# Altium footprint library CL10B105KO8NNNC.PcbLib: 3 footprints
Each footprint in its own frame and in the unit in brackets; x right, y up, seen from the top. Pads: shape width x height; smd on the part's side, far side on the other; paste and mask are expansions set on the pad; w line width, h text height; cw(c..) or ccw(c..) is an arc to the next point about the centre after c.
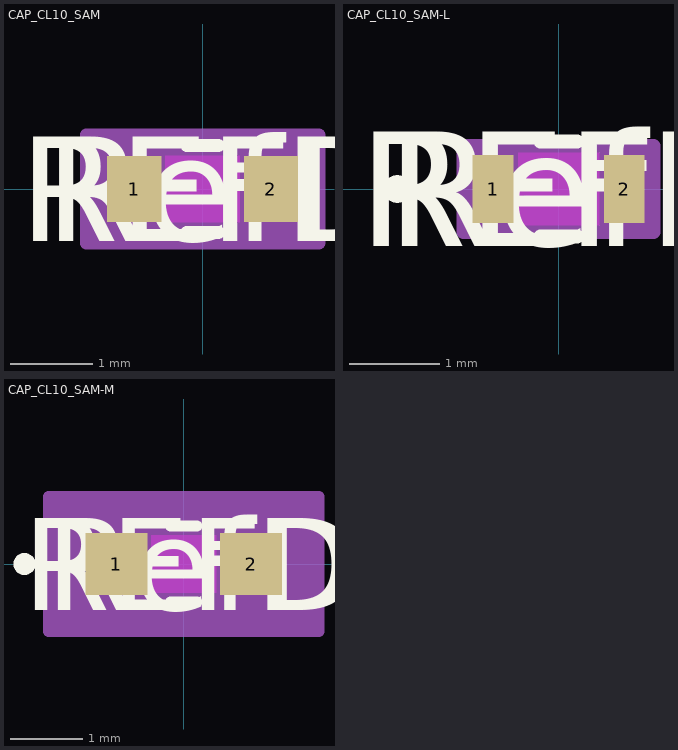
[diagram p0: the footprints below, top view; thin cyan lines are the x and y axes]

## CAP_CL10_SAM [mm]
pads (2):
  rect 0.656x0.8 smd paste+0 mask+0: 1(-0.828,0) 2(0.828,0)
Top Layer keep-out:
  region: -0.449,-0.349 -0.449,0.349 0.449,0.349 0.449,-0.349
Top Overlay:
  lines w0.152: -0.192,-0.527 0.192,-0.527 ; -0.192,0.527 0.192,0.527
  text "RefDes" at -1.905,-0.635 h1.27
  text "REFDES" at -2.222,-0.635 h1.27
Keep-Out Layer:
  region: -0.449,-0.4 -0.449,0.4 0.449,0.4 0.449,-0.4
Mechanical 13:
  circle w0: c-0.701,0 r0
  lines w0.025: -0.8,-0.4 -0.8,0.4 ; -0.8,-0.4 -0.5,-0.4 -0.5,0.4 -0.8,0.4 ; -0.8,-0.4 0.8,-0.4 ; -0.8,-0.4 -0.8,0.4 ; -0.8,0.4 0.8,0.4 ; 0.8,-0.4 0.5,-0.4 0.5,0.4 0.8,0.4 ; 0.8,-0.4 0.8,0.4 ; 0.8,-0.4 0.8,0.4
  text "RefDes2" at -2.222,-0.635 h1.27
Mechanical 15:
  region: 1.41,-0.654 -1.41,-0.654 -1.41,0.654 1.41,0.654
  lines w0.152: -1.41,-0.654 -1.41,0.654 1.41,0.654 1.41,-0.654 -1.41,-0.654
3D body "CAP_CL10_SAM.step": height 0.9, standoff 0, extent -0.8,-0.4 0.8,0.4

## CAP_CL10_SAM-L [mm]
pads (2):
  rect 0.452x0.749 smd paste+0 mask+0: 1(-0.726,0) 2(0.726,0)
Top Layer keep-out:
  region: -0.449,-0.349 -0.449,0.349 0.449,0.349 0.449,-0.349
Top Overlay:
  circle w0.152: c-1.791,0 r0.076
  lines w0.152: -0.204,-0.527 0.204,-0.527 ; -0.204,0.527 0.204,0.527
  text "RefDes" at -1.905,-0.635 h1.27
  text "REFDES" at -2.222,-0.635 h1.27
Keep-Out Layer:
  region: -0.449,-0.4 -0.449,0.4 0.449,0.4 0.449,-0.4
Mechanical 13:
  circle w0: c-0.599,0 r0.076
  lines w0.025: -0.8,-0.4 -0.8,0.4 ; -0.8,-0.4 -0.5,-0.4 -0.5,0.4 -0.8,0.4 ; -0.8,-0.4 0.8,-0.4 ; -0.8,-0.4 -0.8,0.4 ; -0.8,0.4 0.8,0.4 ; 0.8,-0.4 0.5,-0.4 0.5,0.4 0.8,0.4 ; 0.8,-0.4 0.8,0.4 ; 0.8,-0.4 0.8,0.4
  text "RefDes2" at -2.222,-0.635 h1.27
Mechanical 15:
  region: 1.054,-0.476 -1.054,-0.476 -1.054,0.476 1.054,0.476
  lines w0.152: -1.054,-0.476 -1.054,0.476 1.054,0.476 1.054,-0.476 -1.054,-0.476
3D body "CAP_CL10_SAM.step": height 0.9, standoff 0, extent -0.8,-0.4 0.8,0.4

## CAP_CL10_SAM-M [mm]
pads (2):
  rect 0.859x0.851 smd paste+0 mask+0: 1(-0.929,0) 2(0.929,0)
Top Layer keep-out:
  region: -0.449,-0.349 -0.449,0.349 0.449,0.349 0.449,-0.349
Top Overlay:
  circle w0.152: c-2.197,0 r0.076
  lines w0.152: -0.183,-0.527 0.183,-0.527 ; -0.183,0.527 0.183,0.527
  text "RefDes" at -1.905,-0.635 h1.27
  text "REFDES" at -2.222,-0.635 h1.27
Keep-Out Layer:
  region: -0.449,-0.4 -0.449,0.4 0.449,0.4 0.449,-0.4
Mechanical 13:
  circle w0: c-0.802,0 r0.076
  lines w0.025: -0.8,-0.4 -0.8,0.4 ; -0.8,-0.4 -0.5,-0.4 -0.5,0.4 -0.8,0.4 ; -0.8,-0.4 0.8,-0.4 ; -0.8,-0.4 -0.8,0.4 ; -0.8,0.4 0.8,0.4 ; 0.8,-0.4 0.5,-0.4 0.5,0.4 0.8,0.4 ; 0.8,-0.4 0.8,0.4 ; 0.8,-0.4 0.8,0.4
  text "RefDes2" at -2.222,-0.635 h1.27
Mechanical 15:
  region: 1.867,-0.933 -1.867,-0.933 -1.867,0.933 1.867,0.933
  lines w0.152: -1.867,-0.933 -1.867,0.933 1.867,0.933 1.867,-0.933 -1.867,-0.933
3D body "CAP_CL10_SAM.step": height 0.9, standoff 0, extent -0.8,-0.4 0.8,0.4